# Altium schematic symbol library Schlib1.SchLib: 8 symbols
Pins are listed as number, name and electrical type; pins without a type are passive.

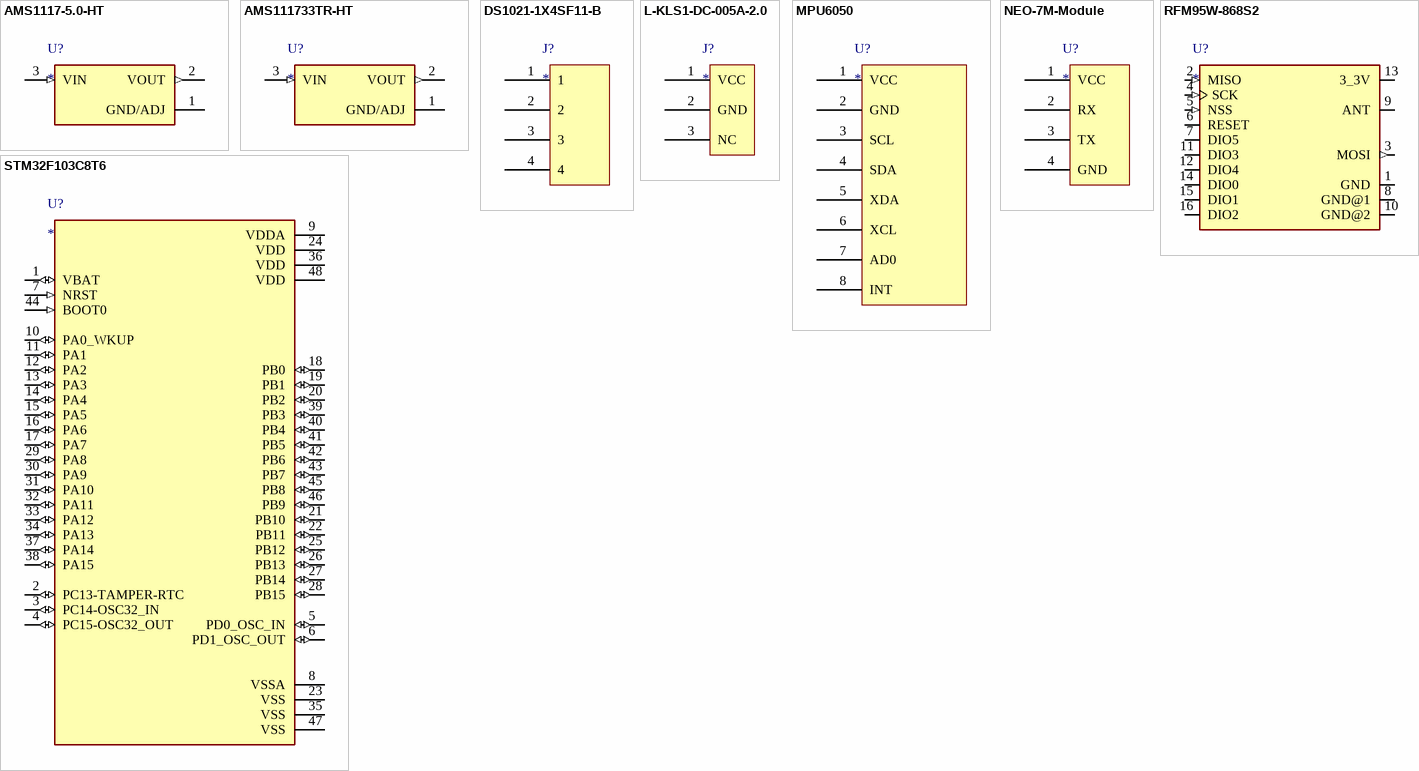
[diagram p0: symbols AMS1117-5.0-HT to STM32F103C8T6]

## AMS1117-5.0-HT
designator U?
IC-1117 5V SOT223 T/R SMD
footprint SOT229P700X180-4N
pins: 1 GND/ADJ (power), 2 VOUT (out), 3 VIN (in)

## AMS111733TR-HT
designator U?
IC-1117 REG LDO 3.3V 1A SOT223
footprint SOT229P700X180-4N
pins: 1 GND/ADJ (power), 2 VOUT (out), 3 VIN (in)

## DS1021-1X4SF11-B
designator J?
PIN HEADER 4PIN(1x4) 2.54mm THT V/T
footprint 1x4_Header
pins: 1, 2, 3, 4

## L-KLS1-DC-005A-2.0
designator J?
CONNECTOR JACK POWER PCB TYPE 2MM KLS
footprint DC_Connector_Jack
pins: 1 VCC, 2 GND, 3 NC

## MPU6050
designator U?
IMU (Inertial Measurement Unit), 6-Axis, Accelerometer, Gyroscope; Manufacturer: TDK InvenSense; Sensor Type: Accelerometer,Gyroscope,6 Axis; Output Type: I2C; Power Rating: 100mW; Value: 5.6kR; Tolerance: 1%; Voltage Rating: 75V; Supplier: Digi-Key; Supplier Part Number: 1428-1007-1-ND; Manufacturer Part Number: MPU-6050; RoHS: Yes; Category: Inertial Measurement Units (IMUs); Stock: 39085; Pricing: 1=8,71, 10=6,969, 25=6,4464, 100=5,5752, 500=5,22676, 1000=4,8783 (USD); Mounting Technology: Surface Mount; Case/Package: QFN; Case Code (Imperial): 0603; Case Code (Metric): 1608; Min Operating Temperature: -40°C; Max Operating Temperature: 85°C; Packaging: Cut Tape; Series: -; Radiation Hardening: No; RoHS Compliant: Yes; ComponentLink1URL: https://datasheet.ciiva.com/1513/1788002-1513632.pdf?src-supplier=Element14; ComponentLink1Description: https://datasheet.ciiva.com/1513/1788002-1513632.pdf?src-supplier=Element14; ComponentLink2URL: https://datasheet.ciiva.com/22731/1788002-22731434.pdf?src-supplier=Element14; ComponentLink2Description: https://datasheet.ciiva.com/22731/1788002-22731434.pdf?src-supplier=Element14
footprint MPU6050
pins: 1 VCC, 2 GND, 3 SCL, 4 SDA, 5 XDA, 6 XCL, 7 AD0, 8 INT

## NEO-7M-Module
designator U?
footprint NEO-7M-Module
pins: 1 VCC, 2 RX, 3 TX, 4 GND

## RFM95W-868S2
designator U?
Transceiver RF 868 MHz (+20/-139dBm), FSK, GFSK, MSK, GMSK, LoRaTM, OOK, 16 x 16 mm; Manufacturer: RF Solutions; Manufacturer Part Number: RFM95W-868S2; Interface: SPI; Frequency: 868MHz; Data Rate: 300Kbps; Sensitivity: -123dBm; Current - Receiving: 12.1mA; Current - Transmitting: 120mA; Supplier: Digi-Key; Supplier Part Number: RFM95W-868S2-ND; RoHS: Yes; Category: RF Receivers, Transceivers; Mounting Technology: Surface Mount; Case/Package: SMD/SMT; Min Operating Temperature: -20°C; Max Operating Temperature: 70°C; Packaging: Bulk; ComponentLink1URL: https://www.rfsolutions.co.uk/downloads/1463993415RFM95_96_97_98W.pdf?src-supplier=Digi-Key; ComponentLink1Description: https://www.rfsolutions.co.uk/downloads/1463993415RFM95_96_97_98W.pdf?src-supplier=Digi-Key
footprint XCVR_RFM95W-868S2
pins: 1 GND (power), 2 MISO (in), 3 MOSI (out), 4 SCK (in), 5 NSS (in), 6 RESET (io), 7 DIO5 (io), 8 GND@1 (power), 9 ANT, 10 GND@2 (power), 11 DIO3 (io), 12 DIO4 (io), 13 3_3V (power), 14 DIO0 (io), 15 DIO1 (io), 16 DIO2 (io)

## STM32F103C8T6
designator U?
ARM Cortex-M3 STM32 F1 Microcontroller 32-Bit 72MHz 64kB FLASH LQFP48 STM32F103C8T6; Manufacturer: STMicroelectronics; RAM Size: 20KB; Interface: I2C,SPI,USB,CAN,USART; Number of I/Os: 37; Number of Timers/Counters: 3; Max Supply Voltage: 3.6V; Number of ADC Channels: 10; Min Supply Voltage: 2V; Data Bus Width: 32b; Nominal Supply Current: 1.7uA; Number of A/D Converters: 2; Supplier: Digi-Key; Supplier Part Number: 497-6063-ND; Manufacturer Part Number: STM32F103C8T6; RoHS: Yes; Category: Microcontrollers; Stock: 6344; Pricing: 1=6,11, 10=5,522, 25=5,2652, 80=4,57163, 250=4,36616, 500=3,9809, 1000=3,46724, 2500=3,33883 (USD); Case/Package: LQFP; Pins: 48; Weight: 0.006349oz; Min Operating Temperature: -40°C; Max Operating Temperature: 85°C; Packaging: Tray; Package Quantity: 1500; Memory Format: FLASH; Clock Frequency: 72MHz; Memory Size: 64KB; Core Architecture: ARM; Series: STM32F103C8; Number of Channels: 10; Length: 7mm; Width: 7mm; Height: 1.4mm; Lead Free: Lead Free; RoHS Compliant: Yes; ComponentLink1URL: https://datasheet.ciiva.com/48687/001075658-da-01-en-mcu-64kb-mem-stm32f103c8t6-lqfp-48-stm-48687589.pdf?src-supplier=Conrad; ComponentLink1Description: https://datasheet.ciiva.com/48687/001075658-da-01-en-mcu-64kb-mem-stm32f103c8t6-lqfp-48-stm-48687589.pdf?src-supplier=Conrad
footprint QFP50P900X900X160-48N
pins: 1 VBAT (io), 2 PC13-TAMPER-RTC (io), 3 PC14-OSC32_IN (io), 4 PC15-OSC32_OUT (io), 5 PD0_OSC_IN (io), 6 PD1_OSC_OUT (io), 7 NRST (in), 8 VSSA (power), 9 VDDA (power), 10 PA0_WKUP (io), 11 PA1 (io), 12 PA2 (io), 13 PA3 (io), 14 PA4 (io), 15 PA5 (io), 16 PA6 (io), 17 PA7 (io), 18 PB0 (io), 19 PB1 (io), 20 PB2 (io), 21 PB10 (io), 22 PB11 (io), 23 VSS (power), 24 VDD (power), 25 PB12 (io), 26 PB13 (io), 27 PB14 (io), 28 PB15 (io), 29 PA8 (io), 30 PA9 (io), 31 PA10 (io), 32 PA11 (io), 33 PA12 (io), 34 PA13 (io), 35 VSS (power), 36 VDD (power), 37 PA14 (io), 38 PA15 (io), 39 PB3 (io), 40 PB4 (io), 41 PB5 (io), 42 PB6 (io), 43 PB7 (io), 44 BOOT0 (in), 45 PB8 (io), 46 PB9 (io), 47 VSS (power), 48 VDD (power)